# Altium footprint library Connector_DIN.PcbLib: 94 footprints (part 4 of 6)
Each footprint in its own frame and in the unit in brackets; x right, y up, seen from the top. Pads: shape width x height; smd on the part's side, far side on the other; paste and mask are expansions set on the pad; w line width, h text height; cw(c..) or ccw(c..) is an arc to the next point about the centre after c.
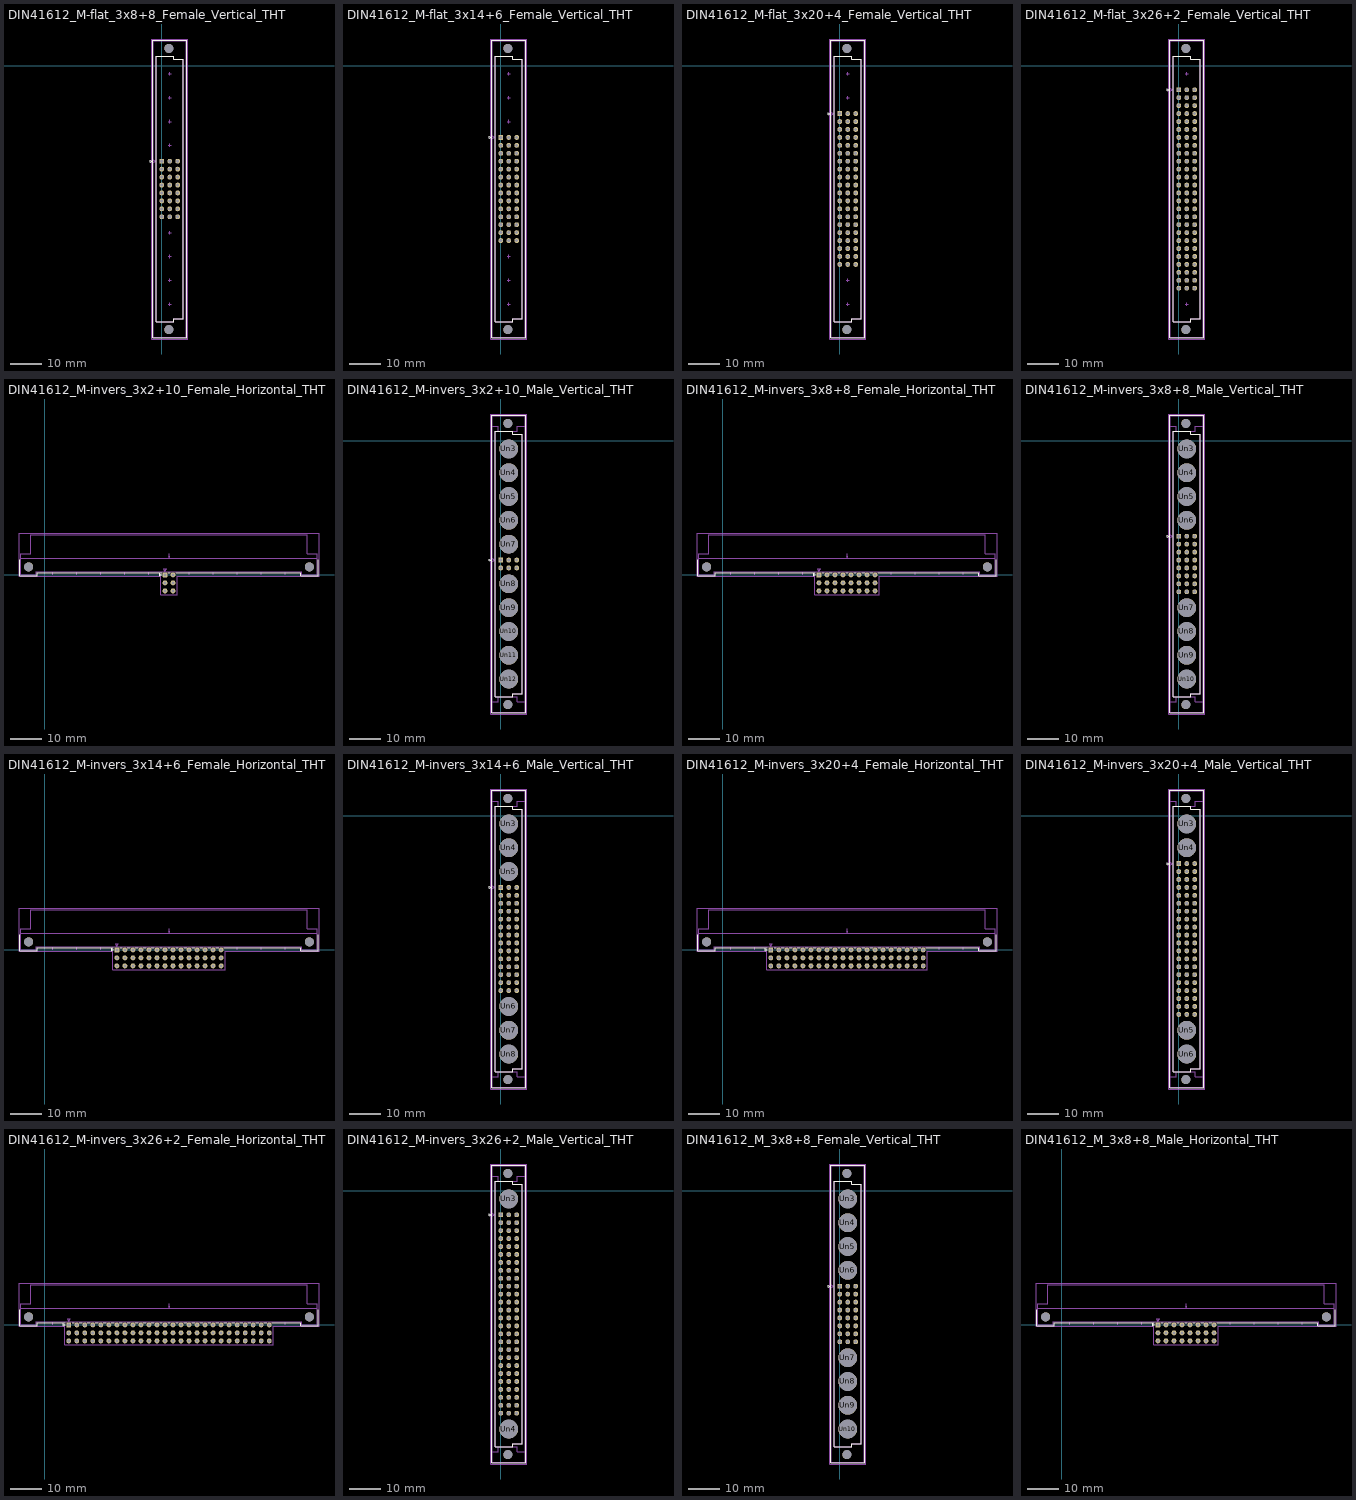
[diagram p3: the footprints below, top view; thin cyan lines are the x and y axes]

## DIN41612_M-flat_3x8+8_Female_Vertical_THT [mm]
pads (26):
  rrect16% 1.55x1.55 hole 1: a13(0,-30.48)
  round 1.55 hole 1: a14(0,-33.02) a15(0,-35.56) a16(0,-38.1) a17(0,-40.64) a18(0,-43.18) a19(0,-45.72) a20(0,-48.26) b13(2.54,-30.48) b14(2.54,-33.02) b15(2.54,-35.56) b16(2.54,-38.1) b17(2.54,-40.64) b18(2.54,-43.18) b19(2.54,-45.72) b20(2.54,-48.26) c13(5.08,-30.48) c14(5.08,-33.02) c15(5.08,-35.56) c16(5.08,-38.1) c17(5.08,-40.64) c18(5.08,-43.18) c19(5.08,-45.72) c20(5.08,-48.26)
  round 2.85 hole 2.85: Un1(2.24,5.63) Un2(2.24,-84.37)
F.SilkS:
  lines w0.254: -3.74,-30.78 -3.06,-30.48 -3.74,-30.18 -3.74,-30.78 ; -2.87,-86.98 7.95,-86.98 7.95,8.24 -2.87,8.24 -2.87,-86.98 ; -1.71,-81.87 3.79,-81.87 3.79,-80.87 6.79,-80.87 6.79,2.13 3.79,2.13 3.79,3.13 -1.71,3.13 -1.71,-81.87
Top Assembly:
  lines w0.254: -2.76,-30.98 -2.06,-30.48 -2.76,-29.98 ; -2.76,-86.87 7.84,-86.87 7.84,8.13 -2.76,8.13 -2.76,-86.87 ; -1.71,-81.87 3.79,-81.87 3.79,-80.87 6.79,-80.87 6.79,2.13 3.79,2.13 3.79,3.13 -1.71,3.13 -1.71,-81.87
  text "'.Designator'" at -1.507,-40.21 h1
Top Courtyard:
  lines w0.254: -3.26,-87.37 8.34,-87.37 8.34,8.63 -3.26,8.63 -3.26,-87.37
Top Designator:
  text ".Designator" at -5.318,-39.878 h1.52
Cmts.User:
  lines w0.254: 2.04,-76.2 3.04,-76.2 ; 2.04,-68.58 3.04,-68.58 ; 2.04,-60.96 3.04,-60.96 ; 2.04,-53.34 3.04,-53.34 ; 2.04,-25.4 3.04,-25.4 ; 2.04,-17.78 3.04,-17.78 ; 2.04,-10.16 3.04,-10.16 ; 2.04,-2.54 3.04,-2.54 ; 2.54,-76.7 2.54,-75.7 ; 2.54,-69.08 2.54,-68.08 ; 2.54,-61.46 2.54,-60.46 ; 2.54,-53.84 2.54,-52.84 ; 2.54,-25.9 2.54,-24.9 ; 2.54,-18.28 2.54,-17.28 ; 2.54,-10.66 2.54,-9.66 ; 2.54,-3.04 2.54,-2.04

## DIN41612_M-flat_3x14+6_Female_Vertical_THT [mm]
pads (44):
  rrect16% 1.55x1.55 hole 1: a10(0,-22.86)
  round 1.55 hole 1: a11(0,-25.4) a12(0,-27.94) a13(0,-30.48) a14(0,-33.02) a15(0,-35.56) a16(0,-38.1) a17(0,-40.64) a18(0,-43.18) a19(0,-45.72) a20(0,-48.26) a21(0,-50.8) a22(0,-53.34) a23(0,-55.88) b10(2.54,-22.86) b11(2.54,-25.4) b12(2.54,-27.94) b13(2.54,-30.48) b14(2.54,-33.02) b15(2.54,-35.56) b16(2.54,-38.1) b17(2.54,-40.64) b18(2.54,-43.18) b19(2.54,-45.72) b20(2.54,-48.26) b21(2.54,-50.8) b22(2.54,-53.34) b23(2.54,-55.88) c10(5.08,-22.86) c11(5.08,-25.4) c12(5.08,-27.94) c13(5.08,-30.48) c14(5.08,-33.02) c15(5.08,-35.56) c16(5.08,-38.1) c17(5.08,-40.64) c18(5.08,-43.18) c19(5.08,-45.72) c20(5.08,-48.26) c21(5.08,-50.8) c22(5.08,-53.34) c23(5.08,-55.88)
  round 2.85 hole 2.85: Un1(2.24,5.63) Un2(2.24,-84.37)
F.SilkS:
  lines w0.254: -3.74,-23.16 -3.06,-22.86 -3.74,-22.56 -3.74,-23.16 ; -2.87,-86.98 7.95,-86.98 7.95,8.24 -2.87,8.24 -2.87,-86.98 ; -1.71,-81.87 3.79,-81.87 3.79,-80.87 6.79,-80.87 6.79,2.13 3.79,2.13 3.79,3.13 -1.71,3.13 -1.71,-81.87
Top Assembly:
  lines w0.254: -2.76,-23.36 -2.06,-22.86 -2.76,-22.36 ; -2.76,-86.87 7.84,-86.87 7.84,8.13 -2.76,8.13 -2.76,-86.87 ; -1.71,-81.87 3.79,-81.87 3.79,-80.87 6.79,-80.87 6.79,2.13 3.79,2.13 3.79,3.13 -1.71,3.13 -1.71,-81.87
  text "'.Designator'" at -1.507,-40.21 h1
Top Courtyard:
  lines w0.254: -3.26,-87.37 8.34,-87.37 8.34,8.63 -3.26,8.63 -3.26,-87.37
Top Designator:
  text ".Designator" at -5.318,-39.878 h1.52
Cmts.User:
  lines w0.254: 2.04,-76.2 3.04,-76.2 ; 2.04,-68.58 3.04,-68.58 ; 2.04,-60.96 3.04,-60.96 ; 2.04,-17.78 3.04,-17.78 ; 2.04,-10.16 3.04,-10.16 ; 2.04,-2.54 3.04,-2.54 ; 2.54,-76.7 2.54,-75.7 ; 2.54,-69.08 2.54,-68.08 ; 2.54,-61.46 2.54,-60.46 ; 2.54,-18.28 2.54,-17.28 ; 2.54,-10.66 2.54,-9.66 ; 2.54,-3.04 2.54,-2.04

## DIN41612_M-flat_3x20+4_Female_Vertical_THT [mm]
pads (62):
  rrect16% 1.55x1.55 hole 1: a7(0,-15.24)
  round 1.55 hole 1: a8(0,-17.78) a9(0,-20.32) a10(0,-22.86) a11(0,-25.4) a12(0,-27.94) a13(0,-30.48) a14(0,-33.02) a15(0,-35.56) a16(0,-38.1) a17(0,-40.64) a18(0,-43.18) a19(0,-45.72) a20(0,-48.26) a21(0,-50.8) a22(0,-53.34) a23(0,-55.88) a24(0,-58.42) a25(0,-60.96) a26(0,-63.5) b7(2.54,-15.24) b8(2.54,-17.78) b9(2.54,-20.32) b10(2.54,-22.86) b11(2.54,-25.4) b12(2.54,-27.94) b13(2.54,-30.48) b14(2.54,-33.02) b15(2.54,-35.56) b16(2.54,-38.1) b17(2.54,-40.64) b18(2.54,-43.18) b19(2.54,-45.72) b20(2.54,-48.26) b21(2.54,-50.8) b22(2.54,-53.34) b23(2.54,-55.88) b24(2.54,-58.42) b25(2.54,-60.96) b26(2.54,-63.5) c7(5.08,-15.24) c8(5.08,-17.78) c9(5.08,-20.32) c10(5.08,-22.86) c11(5.08,-25.4) c12(5.08,-27.94) c13(5.08,-30.48) c14(5.08,-33.02) c15(5.08,-35.56) c16(5.08,-38.1) c17(5.08,-40.64) c18(5.08,-43.18) c19(5.08,-45.72) c20(5.08,-48.26) c21(5.08,-50.8) c22(5.08,-53.34) c23(5.08,-55.88) c24(5.08,-58.42) c25(5.08,-60.96) c26(5.08,-63.5)
  round 2.85 hole 2.85: Un1(2.24,5.63) Un2(2.24,-84.37)
F.SilkS:
  lines w0.254: -3.74,-15.54 -3.06,-15.24 -3.74,-14.94 -3.74,-15.54 ; -2.87,-86.98 7.95,-86.98 7.95,8.24 -2.87,8.24 -2.87,-86.98 ; -1.71,-81.87 3.79,-81.87 3.79,-80.87 6.79,-80.87 6.79,2.13 3.79,2.13 3.79,3.13 -1.71,3.13 -1.71,-81.87
Top Assembly:
  lines w0.254: -2.76,-15.74 -2.06,-15.24 -2.76,-14.74 ; -2.76,-86.87 7.84,-86.87 7.84,8.13 -2.76,8.13 -2.76,-86.87 ; -1.71,-81.87 3.79,-81.87 3.79,-80.87 6.79,-80.87 6.79,2.13 3.79,2.13 3.79,3.13 -1.71,3.13 -1.71,-81.87
  text "'.Designator'" at -1.507,-40.21 h1
Top Courtyard:
  lines w0.254: -3.26,-87.37 8.34,-87.37 8.34,8.63 -3.26,8.63 -3.26,-87.37
Top Designator:
  text ".Designator" at -5.318,-39.878 h1.52
Cmts.User:
  lines w0.254: 2.04,-76.2 3.04,-76.2 ; 2.04,-68.58 3.04,-68.58 ; 2.04,-10.16 3.04,-10.16 ; 2.04,-2.54 3.04,-2.54 ; 2.54,-76.7 2.54,-75.7 ; 2.54,-69.08 2.54,-68.08 ; 2.54,-10.66 2.54,-9.66 ; 2.54,-3.04 2.54,-2.04

## DIN41612_M-flat_3x26+2_Female_Vertical_THT [mm]
pads (80):
  rrect16% 1.55x1.55 hole 1: a4(0,-7.62)
  round 1.55 hole 1: a5(0,-10.16) a6(0,-12.7) a7(0,-15.24) a8(0,-17.78) a9(0,-20.32) a10(0,-22.86) a11(0,-25.4) a12(0,-27.94) a13(0,-30.48) a14(0,-33.02) a15(0,-35.56) a16(0,-38.1) a17(0,-40.64) a18(0,-43.18) a19(0,-45.72) a20(0,-48.26) a21(0,-50.8) a22(0,-53.34) a23(0,-55.88) a24(0,-58.42) a25(0,-60.96) a26(0,-63.5) a27(0,-66.04) a28(0,-68.58) a29(0,-71.12) b4(2.54,-7.62) b5(2.54,-10.16) b6(2.54,-12.7) b7(2.54,-15.24) b8(2.54,-17.78) b9(2.54,-20.32) b10(2.54,-22.86) b11(2.54,-25.4) b12(2.54,-27.94) b13(2.54,-30.48) b14(2.54,-33.02) b15(2.54,-35.56) b16(2.54,-38.1) b17(2.54,-40.64) b18(2.54,-43.18) b19(2.54,-45.72) b20(2.54,-48.26) b21(2.54,-50.8) b22(2.54,-53.34) b23(2.54,-55.88) b24(2.54,-58.42) b25(2.54,-60.96) b26(2.54,-63.5) b27(2.54,-66.04) b28(2.54,-68.58) b29(2.54,-71.12) c4(5.08,-7.62) c5(5.08,-10.16) c6(5.08,-12.7) c7(5.08,-15.24) c8(5.08,-17.78) c9(5.08,-20.32) c10(5.08,-22.86) c11(5.08,-25.4) c12(5.08,-27.94) c13(5.08,-30.48) c14(5.08,-33.02) c15(5.08,-35.56) c16(5.08,-38.1) c17(5.08,-40.64) c18(5.08,-43.18) c19(5.08,-45.72) c20(5.08,-48.26) c21(5.08,-50.8) c22(5.08,-53.34) c23(5.08,-55.88) c24(5.08,-58.42) c25(5.08,-60.96) c26(5.08,-63.5) c27(5.08,-66.04) c28(5.08,-68.58) c29(5.08,-71.12)
  round 2.85 hole 2.85: Un1(2.24,5.63) Un2(2.24,-84.37)
F.SilkS:
  lines w0.254: -3.74,-7.92 -3.06,-7.62 -3.74,-7.32 -3.74,-7.92 ; -2.87,-86.98 7.95,-86.98 7.95,8.24 -2.87,8.24 -2.87,-86.98 ; -1.71,-81.87 3.79,-81.87 3.79,-80.87 6.79,-80.87 6.79,2.13 3.79,2.13 3.79,3.13 -1.71,3.13 -1.71,-81.87
Top Assembly:
  lines w0.254: -2.76,-8.12 -2.06,-7.62 -2.76,-7.12 ; -2.76,-86.87 7.84,-86.87 7.84,8.13 -2.76,8.13 -2.76,-86.87 ; -1.71,-81.87 3.79,-81.87 3.79,-80.87 6.79,-80.87 6.79,2.13 3.79,2.13 3.79,3.13 -1.71,3.13 -1.71,-81.87
  text "'.Designator'" at -1.507,-40.21 h1
Top Courtyard:
  lines w0.254: -3.26,-87.37 8.34,-87.37 8.34,8.63 -3.26,8.63 -3.26,-87.37
Top Designator:
  text ".Designator" at -5.318,-39.878 h1.52
Cmts.User:
  lines w0.254: 2.04,-76.2 3.04,-76.2 ; 2.04,-2.54 3.04,-2.54 ; 2.54,-76.7 2.54,-75.7 ; 2.54,-3.04 2.54,-2.04

## DIN41612_M-invers_3x2+10_Female_Horizontal_THT [mm]
pads (8):
  rrect16% 1.55x1.55 hole 1: a16(38.1,0)
  round 1.55 hole 1: a17(40.64,0) b16(38.1,-2.54) b17(40.64,-2.54) c16(38.1,-5.08) c17(40.64,-5.08)
  round 2.85 hole 2.85: Un1(-5.08,2.54) Un2(83.82,2.54)
F.SilkS:
  lines w0.254: -7.89,4.8 -7.89,-0.26 -2.37,-0.26 -2.37,0.74 37.005,0.74 ; 39.195,0.74 39.833,0.74 ; 41.447,0.74 81.11,0.74 81.11,-0.26 86.63,-0.26 86.63,4.8 ; 36.405,-0.3 37.005,0 36.405,0.3 36.405,-0.3
Top Assembly:
  lines w0.254: -7.63,0 -2.63,0 -2.63,1 81.37,1 81.37,0 86.37,0 86.37,6.74 83.12,6.74 83.12,12.74 -4.38,12.74 -4.38,6.74 -7.63,6.74 -7.63,0 ; 37.6,1.9 38.1,1.2 38.6,1.9 37.6,1.9
  text "'.Designator'" at 35.323,1.7 h1
Top Courtyard:
  lines w0.254: -8.13,-0.5 36.83,-0.5 36.83,-6.36 41.92,-6.36 41.92,-0.5 86.87,-0.5 86.87,13.23 -8.13,13.23 -8.13,-0.5
Top Designator:
  text ".Designator" at 31.752,2.927 h1.52
Dwgs.User:
  lines w0.254: -7.63,5.3 86.37,5.3
Cmts.User:
  lines w0.254: 2.54,0 2.54,1 ; 10.16,0 10.16,1 ; 17.78,0 17.78,1 ; 25.4,0 25.4,1 ; 33.02,0 33.02,1 ; 39.17,5.9 39.37,5.4 ; 39.37,6.7 39.37,5.4 ; 39.57,5.9 39.37,5.4 ; 45.72,0 45.72,1 ; 53.34,0 53.34,1 ; 60.96,0 60.96,1 ; 68.58,0 68.58,1 ; 76.2,0 76.2,1
  text "Board edge" at 36.577,6.733 h0.7

## DIN41612_M-invers_3x2+10_Male_Vertical_THT [mm]
pads (18):
  rrect16% 1.55x1.55 hole 1: a16(0,-38.1)
  round 1.55 hole 1: a17(0,-40.64) b16(2.54,-38.1) b17(2.54,-40.64) c16(5.08,-38.1) c17(5.08,-40.64)
  round 2.85 hole 2.85: Un1(2.24,5.63) Un2(2.24,-84.37)
  round 6 hole 6: Un3(2.54,-2.54) Un4(2.54,-10.16) Un5(2.54,-17.78) Un6(2.54,-25.4) Un7(2.54,-33.02) Un8(2.54,-45.72) Un9(2.54,-53.34) Un10(2.54,-60.96) Un11(2.54,-68.58) Un12(2.54,-76.2)
F.SilkS:
  lines w0.254: -3.74,-38.4 -3.06,-38.1 -3.74,-37.8 -3.74,-38.4 ; -2.87,-86.98 7.95,-86.98 7.95,8.24 -2.87,8.24 -2.87,-86.98 ; -1.71,-81.87 3.79,-81.87 3.79,-80.87 6.79,-80.87 6.79,2.13 3.79,2.13 3.79,3.13 -1.71,3.13 -1.71,-81.87
Top Assembly:
  lines w0.254: -2.76,-83.37 -0.76,-83.37 -0.76,-81.87 ; -2.76,-38.6 -2.06,-38.1 -2.76,-37.6 ; -2.76,4.63 -0.76,4.63 -0.76,3.13 ; 7.84,-83.37 5.24,-83.37 5.24,-81.87 3.79,-81.87 ; 7.84,4.63 5.24,4.63 5.24,3.13 3.79,3.13 ; 3.79,-81.87 -1.71,-81.87 -1.71,3.13 3.79,3.13 ; 3.79,-81.87 3.79,-80.87 6.79,-80.87 6.79,2.13 3.79,2.13 3.79,3.13 ; -2.76,-86.87 7.84,-86.87 7.84,8.13 -2.76,8.13 -2.76,-86.87
  text "'.Designator'" at -1.507,-40.21 h1
Top Courtyard:
  lines w0.254: -3.26,-87.37 8.34,-87.37 8.34,8.63 -3.26,8.63 -3.26,-87.37
Top Designator:
  text ".Designator" at -5.318,-39.878 h1.52

## DIN41612_M-invers_3x8+8_Female_Horizontal_THT [mm]
pads (26):
  rrect16% 1.55x1.55 hole 1: a13(30.48,0)
  round 1.55 hole 1: a14(33.02,0) a15(35.56,0) a16(38.1,0) a17(40.64,0) a18(43.18,0) a19(45.72,0) a20(48.26,0) b13(30.48,-2.54) b14(33.02,-2.54) b15(35.56,-2.54) b16(38.1,-2.54) b17(40.64,-2.54) b18(43.18,-2.54) b19(45.72,-2.54) b20(48.26,-2.54) c13(30.48,-5.08) c14(33.02,-5.08) c15(35.56,-5.08) c16(38.1,-5.08) c17(40.64,-5.08) c18(43.18,-5.08) c19(45.72,-5.08) c20(48.26,-5.08)
  round 2.85 hole 2.85: Un1(-5.08,2.54) Un2(83.82,2.54)
F.SilkS:
  lines w0.254: -7.89,4.8 -7.89,-0.26 -2.37,-0.26 -2.37,0.74 29.385,0.74 ; 31.575,0.74 32.213,0.74 ; 33.827,0.74 34.753,0.74 ; 36.367,0.74 37.293,0.74 ; 38.907,0.74 39.833,0.74 ; 41.447,0.74 42.373,0.74 ; 43.987,0.74 44.913,0.74 ; 46.527,0.74 47.453,0.74 ; 49.067,0.74 81.11,0.74 81.11,-0.26 86.63,-0.26 86.63,4.8 ; 28.785,-0.3 29.385,0 28.785,0.3 28.785,-0.3
Top Assembly:
  lines w0.254: -7.63,0 -2.63,0 -2.63,1 81.37,1 81.37,0 86.37,0 86.37,6.74 83.12,6.74 83.12,12.74 -4.38,12.74 -4.38,6.74 -7.63,6.74 -7.63,0 ; 29.98,1.9 30.48,1.2 30.98,1.9 29.98,1.9
  text "'.Designator'" at 35.323,1.7 h1
Top Courtyard:
  lines w0.254: -8.13,-0.5 29.21,-0.5 29.21,-6.36 49.54,-6.36 49.54,-0.5 86.87,-0.5 86.87,13.23 -8.13,13.23 -8.13,-0.5
Top Designator:
  text ".Designator" at 31.752,2.927 h1.52
Dwgs.User:
  lines w0.254: -7.63,5.3 86.37,5.3
Cmts.User:
  lines w0.254: 2.54,0 2.54,1 ; 10.16,0 10.16,1 ; 17.78,0 17.78,1 ; 25.4,0 25.4,1 ; 39.17,5.9 39.37,5.4 ; 39.37,6.7 39.37,5.4 ; 39.57,5.9 39.37,5.4 ; 53.34,0 53.34,1 ; 60.96,0 60.96,1 ; 68.58,0 68.58,1 ; 76.2,0 76.2,1
  text "Board edge" at 36.577,6.733 h0.7

## DIN41612_M-invers_3x8+8_Male_Vertical_THT [mm]
pads (34):
  rrect16% 1.55x1.55 hole 1: a13(0,-30.48)
  round 1.55 hole 1: a14(0,-33.02) a15(0,-35.56) a16(0,-38.1) a17(0,-40.64) a18(0,-43.18) a19(0,-45.72) a20(0,-48.26) b13(2.54,-30.48) b14(2.54,-33.02) b15(2.54,-35.56) b16(2.54,-38.1) b17(2.54,-40.64) b18(2.54,-43.18) b19(2.54,-45.72) b20(2.54,-48.26) c13(5.08,-30.48) c14(5.08,-33.02) c15(5.08,-35.56) c16(5.08,-38.1) c17(5.08,-40.64) c18(5.08,-43.18) c19(5.08,-45.72) c20(5.08,-48.26)
  round 2.85 hole 2.85: Un1(2.24,5.63) Un2(2.24,-84.37)
  round 6 hole 6: Un3(2.54,-2.54) Un4(2.54,-10.16) Un5(2.54,-17.78) Un6(2.54,-25.4) Un7(2.54,-53.34) Un8(2.54,-60.96) Un9(2.54,-68.58) Un10(2.54,-76.2)
F.SilkS:
  lines w0.254: -3.74,-30.78 -3.06,-30.48 -3.74,-30.18 -3.74,-30.78 ; -2.87,-86.98 7.95,-86.98 7.95,8.24 -2.87,8.24 -2.87,-86.98 ; -1.71,-81.87 3.79,-81.87 3.79,-80.87 6.79,-80.87 6.79,2.13 3.79,2.13 3.79,3.13 -1.71,3.13 -1.71,-81.87
Top Assembly:
  lines w0.254: -2.76,-83.37 -0.76,-83.37 -0.76,-81.87 ; -2.76,-30.98 -2.06,-30.48 -2.76,-29.98 ; -2.76,4.63 -0.76,4.63 -0.76,3.13 ; 7.84,-83.37 5.24,-83.37 5.24,-81.87 3.79,-81.87 ; 7.84,4.63 5.24,4.63 5.24,3.13 3.79,3.13 ; 3.79,-81.87 -1.71,-81.87 -1.71,3.13 3.79,3.13 ; 3.79,-81.87 3.79,-80.87 6.79,-80.87 6.79,2.13 3.79,2.13 3.79,3.13 ; -2.76,-86.87 7.84,-86.87 7.84,8.13 -2.76,8.13 -2.76,-86.87
  text "'.Designator'" at -1.507,-40.21 h1
Top Courtyard:
  lines w0.254: -3.26,-87.37 8.34,-87.37 8.34,8.63 -3.26,8.63 -3.26,-87.37
Top Designator:
  text ".Designator" at -5.318,-39.878 h1.52

## DIN41612_M-invers_3x14+6_Female_Horizontal_THT [mm]
pads (44):
  rrect16% 1.55x1.55 hole 1: a10(22.86,0)
  round 1.55 hole 1: a11(25.4,0) a12(27.94,0) a13(30.48,0) a14(33.02,0) a15(35.56,0) a16(38.1,0) a17(40.64,0) a18(43.18,0) a19(45.72,0) a20(48.26,0) a21(50.8,0) a22(53.34,0) a23(55.88,0) b10(22.86,-2.54) b11(25.4,-2.54) b12(27.94,-2.54) b13(30.48,-2.54) b14(33.02,-2.54) b15(35.56,-2.54) b16(38.1,-2.54) b17(40.64,-2.54) b18(43.18,-2.54) b19(45.72,-2.54) b20(48.26,-2.54) b21(50.8,-2.54) b22(53.34,-2.54) b23(55.88,-2.54) c10(22.86,-5.08) c11(25.4,-5.08) c12(27.94,-5.08) c13(30.48,-5.08) c14(33.02,-5.08) c15(35.56,-5.08) c16(38.1,-5.08) c17(40.64,-5.08) c18(43.18,-5.08) c19(45.72,-5.08) c20(48.26,-5.08) c21(50.8,-5.08) c22(53.34,-5.08) c23(55.88,-5.08)
  round 2.85 hole 2.85: Un1(-5.08,2.54) Un2(83.82,2.54)
F.SilkS:
  lines w0.254: -7.89,4.8 -7.89,-0.26 -2.37,-0.26 -2.37,0.74 21.765,0.74 ; 23.955,0.74 24.593,0.74 ; 26.207,0.74 27.133,0.74 ; 28.747,0.74 29.673,0.74 ; 31.287,0.74 32.213,0.74 ; 33.827,0.74 34.753,0.74 ; 36.367,0.74 37.293,0.74 ; 38.907,0.74 39.833,0.74 ; 41.447,0.74 42.373,0.74 ; 43.987,0.74 44.913,0.74 ; 46.527,0.74 47.453,0.74 ; 49.067,0.74 49.993,0.74 ; 51.607,0.74 52.533,0.74 ; 54.147,0.74 55.073,0.74 ; 56.687,0.74 81.11,0.74 81.11,-0.26 86.63,-0.26 86.63,4.8 ; 21.165,-0.3 21.765,0 21.165,0.3 21.165,-0.3
Top Assembly:
  lines w0.254: -7.63,0 -2.63,0 -2.63,1 81.37,1 81.37,0 86.37,0 86.37,6.74 83.12,6.74 83.12,12.74 -4.38,12.74 -4.38,6.74 -7.63,6.74 -7.63,0 ; 22.36,1.9 22.86,1.2 23.36,1.9 22.36,1.9
  text "'.Designator'" at 35.323,1.7 h1
Top Courtyard:
  lines w0.254: -8.13,-0.5 21.59,-0.5 21.59,-6.36 57.16,-6.36 57.16,-0.5 86.87,-0.5 86.87,13.23 -8.13,13.23 -8.13,-0.5
Top Designator:
  text ".Designator" at 31.752,2.927 h1.52
Dwgs.User:
  lines w0.254: -7.63,5.3 86.37,5.3
Cmts.User:
  lines w0.254: 2.54,0 2.54,1 ; 10.16,0 10.16,1 ; 17.78,0 17.78,1 ; 39.17,5.9 39.37,5.4 ; 39.37,6.7 39.37,5.4 ; 39.57,5.9 39.37,5.4 ; 60.96,0 60.96,1 ; 68.58,0 68.58,1 ; 76.2,0 76.2,1
  text "Board edge" at 36.577,6.733 h0.7

## DIN41612_M-invers_3x14+6_Male_Vertical_THT [mm]
pads (50):
  rrect16% 1.55x1.55 hole 1: a10(0,-22.86)
  round 1.55 hole 1: a11(0,-25.4) a12(0,-27.94) a13(0,-30.48) a14(0,-33.02) a15(0,-35.56) a16(0,-38.1) a17(0,-40.64) a18(0,-43.18) a19(0,-45.72) a20(0,-48.26) a21(0,-50.8) a22(0,-53.34) a23(0,-55.88) b10(2.54,-22.86) b11(2.54,-25.4) b12(2.54,-27.94) b13(2.54,-30.48) b14(2.54,-33.02) b15(2.54,-35.56) b16(2.54,-38.1) b17(2.54,-40.64) b18(2.54,-43.18) b19(2.54,-45.72) b20(2.54,-48.26) b21(2.54,-50.8) b22(2.54,-53.34) b23(2.54,-55.88) c10(5.08,-22.86) c11(5.08,-25.4) c12(5.08,-27.94) c13(5.08,-30.48) c14(5.08,-33.02) c15(5.08,-35.56) c16(5.08,-38.1) c17(5.08,-40.64) c18(5.08,-43.18) c19(5.08,-45.72) c20(5.08,-48.26) c21(5.08,-50.8) c22(5.08,-53.34) c23(5.08,-55.88)
  round 2.85 hole 2.85: Un1(2.24,5.63) Un2(2.24,-84.37)
  round 6 hole 6: Un3(2.54,-2.54) Un4(2.54,-10.16) Un5(2.54,-17.78) Un6(2.54,-60.96) Un7(2.54,-68.58) Un8(2.54,-76.2)
F.SilkS:
  lines w0.254: -3.74,-23.16 -3.06,-22.86 -3.74,-22.56 -3.74,-23.16 ; -2.87,-86.98 7.95,-86.98 7.95,8.24 -2.87,8.24 -2.87,-86.98 ; -1.71,-81.87 3.79,-81.87 3.79,-80.87 6.79,-80.87 6.79,2.13 3.79,2.13 3.79,3.13 -1.71,3.13 -1.71,-81.87
Top Assembly:
  lines w0.254: -2.76,-83.37 -0.76,-83.37 -0.76,-81.87 ; -2.76,-23.36 -2.06,-22.86 -2.76,-22.36 ; -2.76,4.63 -0.76,4.63 -0.76,3.13 ; 7.84,-83.37 5.24,-83.37 5.24,-81.87 3.79,-81.87 ; 7.84,4.63 5.24,4.63 5.24,3.13 3.79,3.13 ; 3.79,-81.87 -1.71,-81.87 -1.71,3.13 3.79,3.13 ; 3.79,-81.87 3.79,-80.87 6.79,-80.87 6.79,2.13 3.79,2.13 3.79,3.13 ; -2.76,-86.87 7.84,-86.87 7.84,8.13 -2.76,8.13 -2.76,-86.87
  text "'.Designator'" at -1.507,-40.21 h1
Top Courtyard:
  lines w0.254: -3.26,-87.37 8.34,-87.37 8.34,8.63 -3.26,8.63 -3.26,-87.37
Top Designator:
  text ".Designator" at -5.318,-39.878 h1.52

## DIN41612_M-invers_3x20+4_Female_Horizontal_THT [mm]
pads (62):
  rrect16% 1.55x1.55 hole 1: a7(15.24,0)
  round 1.55 hole 1: a8(17.78,0) a9(20.32,0) a10(22.86,0) a11(25.4,0) a12(27.94,0) a13(30.48,0) a14(33.02,0) a15(35.56,0) a16(38.1,0) a17(40.64,0) a18(43.18,0) a19(45.72,0) a20(48.26,0) a21(50.8,0) a22(53.34,0) a23(55.88,0) a24(58.42,0) a25(60.96,0) a26(63.5,0) b7(15.24,-2.54) b8(17.78,-2.54) b9(20.32,-2.54) b10(22.86,-2.54) b11(25.4,-2.54) b12(27.94,-2.54) b13(30.48,-2.54) b14(33.02,-2.54) b15(35.56,-2.54) b16(38.1,-2.54) b17(40.64,-2.54) b18(43.18,-2.54) b19(45.72,-2.54) b20(48.26,-2.54) b21(50.8,-2.54) b22(53.34,-2.54) b23(55.88,-2.54) b24(58.42,-2.54) b25(60.96,-2.54) b26(63.5,-2.54) c7(15.24,-5.08) c8(17.78,-5.08) c9(20.32,-5.08) c10(22.86,-5.08) c11(25.4,-5.08) c12(27.94,-5.08) c13(30.48,-5.08) c14(33.02,-5.08) c15(35.56,-5.08) c16(38.1,-5.08) c17(40.64,-5.08) c18(43.18,-5.08) c19(45.72,-5.08) c20(48.26,-5.08) c21(50.8,-5.08) c22(53.34,-5.08) c23(55.88,-5.08) c24(58.42,-5.08) c25(60.96,-5.08) c26(63.5,-5.08)
  round 2.85 hole 2.85: Un1(-5.08,2.54) Un2(83.82,2.54)
F.SilkS:
  lines w0.254: -7.89,4.8 -7.89,-0.26 -2.37,-0.26 -2.37,0.74 14.145,0.74 ; 16.335,0.74 16.973,0.74 ; 18.587,0.74 19.513,0.74 ; 21.127,0.74 22.053,0.74 ; 23.667,0.74 24.593,0.74 ; 26.207,0.74 27.133,0.74 ; 28.747,0.74 29.673,0.74 ; 31.287,0.74 32.213,0.74 ; 33.827,0.74 34.753,0.74 ; 36.367,0.74 37.293,0.74 ; 38.907,0.74 39.833,0.74 ; 41.447,0.74 42.373,0.74 ; 43.987,0.74 44.913,0.74 ; 46.527,0.74 47.453,0.74 ; 49.067,0.74 49.993,0.74 ; 51.607,0.74 52.533,0.74 ; 54.147,0.74 55.073,0.74 ; 56.687,0.74 57.613,0.74 ; 59.227,0.74 60.153,0.74 ; 61.767,0.74 62.693,0.74 ; 64.307,0.74 81.11,0.74 81.11,-0.26 86.63,-0.26 86.63,4.8 ; 13.545,-0.3 14.145,0 13.545,0.3 13.545,-0.3
Top Assembly:
  lines w0.254: -7.63,0 -2.63,0 -2.63,1 81.37,1 81.37,0 86.37,0 86.37,6.74 83.12,6.74 83.12,12.74 -4.38,12.74 -4.38,6.74 -7.63,6.74 -7.63,0 ; 14.74,1.9 15.24,1.2 15.74,1.9 14.74,1.9
  text "'.Designator'" at 35.323,1.7 h1
Top Courtyard:
  lines w0.254: -8.13,-0.5 13.97,-0.5 13.97,-6.36 64.78,-6.36 64.78,-0.5 86.87,-0.5 86.87,13.23 -8.13,13.23 -8.13,-0.5
Top Designator:
  text ".Designator" at 31.752,2.927 h1.52
Dwgs.User:
  lines w0.254: -7.63,5.3 86.37,5.3
Cmts.User:
  lines w0.254: 2.54,0 2.54,1 ; 10.16,0 10.16,1 ; 39.17,5.9 39.37,5.4 ; 39.37,6.7 39.37,5.4 ; 39.57,5.9 39.37,5.4 ; 68.58,0 68.58,1 ; 76.2,0 76.2,1
  text "Board edge" at 36.577,6.733 h0.7

## DIN41612_M-invers_3x20+4_Male_Vertical_THT [mm]
pads (66):
  rrect16% 1.55x1.55 hole 1: a7(0,-15.24)
  round 1.55 hole 1: a8(0,-17.78) a9(0,-20.32) a10(0,-22.86) a11(0,-25.4) a12(0,-27.94) a13(0,-30.48) a14(0,-33.02) a15(0,-35.56) a16(0,-38.1) a17(0,-40.64) a18(0,-43.18) a19(0,-45.72) a20(0,-48.26) a21(0,-50.8) a22(0,-53.34) a23(0,-55.88) a24(0,-58.42) a25(0,-60.96) a26(0,-63.5) b7(2.54,-15.24) b8(2.54,-17.78) b9(2.54,-20.32) b10(2.54,-22.86) b11(2.54,-25.4) b12(2.54,-27.94) b13(2.54,-30.48) b14(2.54,-33.02) b15(2.54,-35.56) b16(2.54,-38.1) b17(2.54,-40.64) b18(2.54,-43.18) b19(2.54,-45.72) b20(2.54,-48.26) b21(2.54,-50.8) b22(2.54,-53.34) b23(2.54,-55.88) b24(2.54,-58.42) b25(2.54,-60.96) b26(2.54,-63.5) c7(5.08,-15.24) c8(5.08,-17.78) c9(5.08,-20.32) c10(5.08,-22.86) c11(5.08,-25.4) c12(5.08,-27.94) c13(5.08,-30.48) c14(5.08,-33.02) c15(5.08,-35.56) c16(5.08,-38.1) c17(5.08,-40.64) c18(5.08,-43.18) c19(5.08,-45.72) c20(5.08,-48.26) c21(5.08,-50.8) c22(5.08,-53.34) c23(5.08,-55.88) c24(5.08,-58.42) c25(5.08,-60.96) c26(5.08,-63.5)
  round 2.85 hole 2.85: Un1(2.24,5.63) Un2(2.24,-84.37)
  round 6 hole 6: Un3(2.54,-2.54) Un4(2.54,-10.16) Un5(2.54,-68.58) Un6(2.54,-76.2)
F.SilkS:
  lines w0.254: -3.74,-15.54 -3.06,-15.24 -3.74,-14.94 -3.74,-15.54 ; -2.87,-86.98 7.95,-86.98 7.95,8.24 -2.87,8.24 -2.87,-86.98 ; -1.71,-81.87 3.79,-81.87 3.79,-80.87 6.79,-80.87 6.79,2.13 3.79,2.13 3.79,3.13 -1.71,3.13 -1.71,-81.87
Top Assembly:
  lines w0.254: -2.76,-83.37 -0.76,-83.37 -0.76,-81.87 ; -2.76,-15.74 -2.06,-15.24 -2.76,-14.74 ; -2.76,4.63 -0.76,4.63 -0.76,3.13 ; 7.84,-83.37 5.24,-83.37 5.24,-81.87 3.79,-81.87 ; 7.84,4.63 5.24,4.63 5.24,3.13 3.79,3.13 ; 3.79,-81.87 -1.71,-81.87 -1.71,3.13 3.79,3.13 ; 3.79,-81.87 3.79,-80.87 6.79,-80.87 6.79,2.13 3.79,2.13 3.79,3.13 ; -2.76,-86.87 7.84,-86.87 7.84,8.13 -2.76,8.13 -2.76,-86.87
  text "'.Designator'" at -1.507,-40.21 h1
Top Courtyard:
  lines w0.254: -3.26,-87.37 8.34,-87.37 8.34,8.63 -3.26,8.63 -3.26,-87.37
Top Designator:
  text ".Designator" at -5.318,-39.878 h1.52

## DIN41612_M-invers_3x26+2_Female_Horizontal_THT [mm]
pads (80):
  rrect16% 1.55x1.55 hole 1: a4(7.62,0)
  round 1.55 hole 1: a5(10.16,0) a6(12.7,0) a7(15.24,0) a8(17.78,0) a9(20.32,0) a10(22.86,0) a11(25.4,0) a12(27.94,0) a13(30.48,0) a14(33.02,0) a15(35.56,0) a16(38.1,0) a17(40.64,0) a18(43.18,0) a19(45.72,0) a20(48.26,0) a21(50.8,0) a22(53.34,0) a23(55.88,0) a24(58.42,0) a25(60.96,0) a26(63.5,0) a27(66.04,0) a28(68.58,0) a29(71.12,0) b4(7.62,-2.54) b5(10.16,-2.54) b6(12.7,-2.54) b7(15.24,-2.54) b8(17.78,-2.54) b9(20.32,-2.54) b10(22.86,-2.54) b11(25.4,-2.54) b12(27.94,-2.54) b13(30.48,-2.54) b14(33.02,-2.54) b15(35.56,-2.54) b16(38.1,-2.54) b17(40.64,-2.54) b18(43.18,-2.54) b19(45.72,-2.54) b20(48.26,-2.54) b21(50.8,-2.54) b22(53.34,-2.54) b23(55.88,-2.54) b24(58.42,-2.54) b25(60.96,-2.54) b26(63.5,-2.54) b27(66.04,-2.54) b28(68.58,-2.54) b29(71.12,-2.54) c4(7.62,-5.08) c5(10.16,-5.08) c6(12.7,-5.08) c7(15.24,-5.08) c8(17.78,-5.08) c9(20.32,-5.08) c10(22.86,-5.08) c11(25.4,-5.08) c12(27.94,-5.08) c13(30.48,-5.08) c14(33.02,-5.08) c15(35.56,-5.08) c16(38.1,-5.08) c17(40.64,-5.08) c18(43.18,-5.08) c19(45.72,-5.08) c20(48.26,-5.08) c21(50.8,-5.08) c22(53.34,-5.08) c23(55.88,-5.08) c24(58.42,-5.08) c25(60.96,-5.08) c26(63.5,-5.08) c27(66.04,-5.08) c28(68.58,-5.08) c29(71.12,-5.08)
  round 2.85 hole 2.85: Un1(-5.08,2.54) Un2(83.82,2.54)
F.SilkS:
  lines w0.254: -7.89,4.8 -7.89,-0.26 -2.37,-0.26 -2.37,0.74 6.525,0.74 ; 8.715,0.74 9.353,0.74 ; 10.967,0.74 11.893,0.74 ; 13.507,0.74 14.433,0.74 ; 16.047,0.74 16.973,0.74 ; 18.587,0.74 19.513,0.74 ; 21.127,0.74 22.053,0.74 ; 23.667,0.74 24.593,0.74 ; 26.207,0.74 27.133,0.74 ; 28.747,0.74 29.673,0.74 ; 31.287,0.74 32.213,0.74 ; 33.827,0.74 34.753,0.74 ; 36.367,0.74 37.293,0.74 ; 38.907,0.74 39.833,0.74 ; 41.447,0.74 42.373,0.74 ; 43.987,0.74 44.913,0.74 ; 46.527,0.74 47.453,0.74 ; 49.067,0.74 49.993,0.74 ; 51.607,0.74 52.533,0.74 ; 54.147,0.74 55.073,0.74 ; 56.687,0.74 57.613,0.74 ; 59.227,0.74 60.153,0.74 ; 61.767,0.74 62.693,0.74 ; 64.307,0.74 65.233,0.74 ; 66.847,0.74 67.773,0.74 ; 69.387,0.74 70.313,0.74 ; 71.927,0.74 81.11,0.74 81.11,-0.26 86.63,-0.26 86.63,4.8 ; 5.925,-0.3 6.525,0 5.925,0.3 5.925,-0.3
Top Assembly:
  lines w0.254: -7.63,0 -2.63,0 -2.63,1 81.37,1 81.37,0 86.37,0 86.37,6.74 83.12,6.74 83.12,12.74 -4.38,12.74 -4.38,6.74 -7.63,6.74 -7.63,0 ; 7.12,1.9 7.62,1.2 8.12,1.9 7.12,1.9
  text "'.Designator'" at 35.323,1.7 h1
Top Courtyard:
  lines w0.254: -8.13,-0.5 6.35,-0.5 6.35,-6.36 72.4,-6.36 72.4,-0.5 86.87,-0.5 86.87,13.23 -8.13,13.23 -8.13,-0.5
Top Designator:
  text ".Designator" at 31.752,2.927 h1.52
Dwgs.User:
  lines w0.254: -7.63,5.3 86.37,5.3
Cmts.User:
  lines w0.254: 2.54,0 2.54,1 ; 39.17,5.9 39.37,5.4 ; 39.37,6.7 39.37,5.4 ; 39.57,5.9 39.37,5.4 ; 76.2,0 76.2,1
  text "Board edge" at 36.577,6.733 h0.7

## DIN41612_M-invers_3x26+2_Male_Vertical_THT [mm]
pads (82):
  rrect16% 1.55x1.55 hole 1: a4(0,-7.62)
  round 1.55 hole 1: a5(0,-10.16) a6(0,-12.7) a7(0,-15.24) a8(0,-17.78) a9(0,-20.32) a10(0,-22.86) a11(0,-25.4) a12(0,-27.94) a13(0,-30.48) a14(0,-33.02) a15(0,-35.56) a16(0,-38.1) a17(0,-40.64) a18(0,-43.18) a19(0,-45.72) a20(0,-48.26) a21(0,-50.8) a22(0,-53.34) a23(0,-55.88) a24(0,-58.42) a25(0,-60.96) a26(0,-63.5) a27(0,-66.04) a28(0,-68.58) a29(0,-71.12) b4(2.54,-7.62) b5(2.54,-10.16) b6(2.54,-12.7) b7(2.54,-15.24) b8(2.54,-17.78) b9(2.54,-20.32) b10(2.54,-22.86) b11(2.54,-25.4) b12(2.54,-27.94) b13(2.54,-30.48) b14(2.54,-33.02) b15(2.54,-35.56) b16(2.54,-38.1) b17(2.54,-40.64) b18(2.54,-43.18) b19(2.54,-45.72) b20(2.54,-48.26) b21(2.54,-50.8) b22(2.54,-53.34) b23(2.54,-55.88) b24(2.54,-58.42) b25(2.54,-60.96) b26(2.54,-63.5) b27(2.54,-66.04) b28(2.54,-68.58) b29(2.54,-71.12) c4(5.08,-7.62) c5(5.08,-10.16) c6(5.08,-12.7) c7(5.08,-15.24) c8(5.08,-17.78) c9(5.08,-20.32) c10(5.08,-22.86) c11(5.08,-25.4) c12(5.08,-27.94) c13(5.08,-30.48) c14(5.08,-33.02) c15(5.08,-35.56) c16(5.08,-38.1) c17(5.08,-40.64) c18(5.08,-43.18) c19(5.08,-45.72) c20(5.08,-48.26) c21(5.08,-50.8) c22(5.08,-53.34) c23(5.08,-55.88) c24(5.08,-58.42) c25(5.08,-60.96) c26(5.08,-63.5) c27(5.08,-66.04) c28(5.08,-68.58) c29(5.08,-71.12)
  round 2.85 hole 2.85: Un1(2.24,5.63) Un2(2.24,-84.37)
  round 6 hole 6: Un3(2.54,-2.54) Un4(2.54,-76.2)
F.SilkS:
  lines w0.254: -3.74,-7.92 -3.06,-7.62 -3.74,-7.32 -3.74,-7.92 ; -2.87,-86.98 7.95,-86.98 7.95,8.24 -2.87,8.24 -2.87,-86.98 ; -1.71,-81.87 3.79,-81.87 3.79,-80.87 6.79,-80.87 6.79,2.13 3.79,2.13 3.79,3.13 -1.71,3.13 -1.71,-81.87
Top Assembly:
  lines w0.254: -2.76,-83.37 -0.76,-83.37 -0.76,-81.87 ; -2.76,-8.12 -2.06,-7.62 -2.76,-7.12 ; -2.76,4.63 -0.76,4.63 -0.76,3.13 ; 7.84,-83.37 5.24,-83.37 5.24,-81.87 3.79,-81.87 ; 7.84,4.63 5.24,4.63 5.24,3.13 3.79,3.13 ; 3.79,-81.87 -1.71,-81.87 -1.71,3.13 3.79,3.13 ; 3.79,-81.87 3.79,-80.87 6.79,-80.87 6.79,2.13 3.79,2.13 3.79,3.13 ; -2.76,-86.87 7.84,-86.87 7.84,8.13 -2.76,8.13 -2.76,-86.87
  text "'.Designator'" at -1.507,-40.21 h1
Top Courtyard:
  lines w0.254: -3.26,-87.37 8.34,-87.37 8.34,8.63 -3.26,8.63 -3.26,-87.37
Top Designator:
  text ".Designator" at -5.318,-39.878 h1.52

## DIN41612_M_3x8+8_Female_Vertical_THT [mm]
pads (34):
  rrect16% 1.55x1.55 hole 1: a13(0,-30.48)
  round 1.55 hole 1: a14(0,-33.02) a15(0,-35.56) a16(0,-38.1) a17(0,-40.64) a18(0,-43.18) a19(0,-45.72) a20(0,-48.26) b13(2.54,-30.48) b14(2.54,-33.02) b15(2.54,-35.56) b16(2.54,-38.1) b17(2.54,-40.64) b18(2.54,-43.18) b19(2.54,-45.72) b20(2.54,-48.26) c13(5.08,-30.48) c14(5.08,-33.02) c15(5.08,-35.56) c16(5.08,-38.1) c17(5.08,-40.64) c18(5.08,-43.18) c19(5.08,-45.72) c20(5.08,-48.26)
  round 2.85 hole 2.85: Un1(2.24,5.63) Un2(2.24,-84.37)
  round 6 hole 6: Un3(2.54,-2.54) Un4(2.54,-10.16) Un5(2.54,-17.78) Un6(2.54,-25.4) Un7(2.54,-53.34) Un8(2.54,-60.96) Un9(2.54,-68.58) Un10(2.54,-76.2)
F.SilkS:
  lines w0.254: -3.74,-30.78 -3.06,-30.48 -3.74,-30.18 -3.74,-30.78 ; -2.87,-86.98 7.95,-86.98 7.95,8.24 -2.87,8.24 -2.87,-86.98 ; -1.71,-81.87 3.79,-81.87 3.79,-80.87 6.79,-80.87 6.79,2.13 3.79,2.13 3.79,3.13 -1.71,3.13 -1.71,-81.87
Top Assembly:
  lines w0.254: -2.76,-30.98 -2.06,-30.48 -2.76,-29.98 ; -2.76,-86.87 7.84,-86.87 7.84,8.13 -2.76,8.13 -2.76,-86.87 ; -1.71,-81.87 3.79,-81.87 3.79,-80.87 6.79,-80.87 6.79,2.13 3.79,2.13 3.79,3.13 -1.71,3.13 -1.71,-81.87
  text "'.Designator'" at -1.507,-40.21 h1
Top Courtyard:
  lines w0.254: -3.26,-87.37 8.34,-87.37 8.34,8.63 -3.26,8.63 -3.26,-87.37
Top Designator:
  text ".Designator" at -5.318,-39.878 h1.52

## DIN41612_M_3x8+8_Male_Horizontal_THT [mm]
pads (26):
  rrect16% 1.55x1.55 hole 1: a13(30.48,0)
  round 1.55 hole 1: a14(33.02,0) a15(35.56,0) a16(38.1,0) a17(40.64,0) a18(43.18,0) a19(45.72,0) a20(48.26,0) b13(30.48,-2.54) b14(33.02,-2.54) b15(35.56,-2.54) b16(38.1,-2.54) b17(40.64,-2.54) b18(43.18,-2.54) b19(45.72,-2.54) b20(48.26,-2.54) c13(30.48,-5.08) c14(33.02,-5.08) c15(35.56,-5.08) c16(38.1,-5.08) c17(40.64,-5.08) c18(43.18,-5.08) c19(45.72,-5.08) c20(48.26,-5.08)
  round 2.85 hole 2.85: Un1(-5.08,2.54) Un2(83.82,2.54)
F.SilkS:
  lines w0.254: -7.89,4.8 -7.89,-0.26 -2.37,-0.26 -2.37,0.74 29.385,0.74 ; 31.575,0.74 32.213,0.74 ; 33.827,0.74 34.753,0.74 ; 36.367,0.74 37.293,0.74 ; 38.907,0.74 39.833,0.74 ; 41.447,0.74 42.373,0.74 ; 43.987,0.74 44.913,0.74 ; 46.527,0.74 47.453,0.74 ; 49.067,0.74 81.11,0.74 81.11,-0.26 86.63,-0.26 86.63,4.8 ; 28.785,-0.3 29.385,0 28.785,0.3 28.785,-0.3
Top Assembly:
  lines w0.254: -7.63,0 -2.63,0 -2.63,1 81.37,1 81.37,0 86.37,0 86.37,6.74 83.12,6.74 83.12,12.74 -4.38,12.74 -4.38,6.74 -7.63,6.74 -7.63,0 ; 29.98,1.9 30.48,1.2 30.98,1.9 29.98,1.9
  text "'.Designator'" at 35.323,1.7 h1
Top Courtyard:
  lines w0.254: -8.13,-0.5 29.21,-0.5 29.21,-6.36 49.54,-6.36 49.54,-0.5 86.87,-0.5 86.87,13.23 -8.13,13.23 -8.13,-0.5
Top Designator:
  text ".Designator" at 31.752,2.927 h1.52
Dwgs.User:
  lines w0.254: -7.63,5.3 86.37,5.3
Cmts.User:
  lines w0.254: 2.54,0 2.54,1 ; 10.16,0 10.16,1 ; 17.78,0 17.78,1 ; 25.4,0 25.4,1 ; 39.17,5.9 39.37,5.4 ; 39.37,6.7 39.37,5.4 ; 39.57,5.9 39.37,5.4 ; 53.34,0 53.34,1 ; 60.96,0 60.96,1 ; 68.58,0 68.58,1 ; 76.2,0 76.2,1
  text "Board edge" at 36.577,6.733 h0.7